# EAGLE library part DSPIC33EPXXXMC202/502 (library parts)
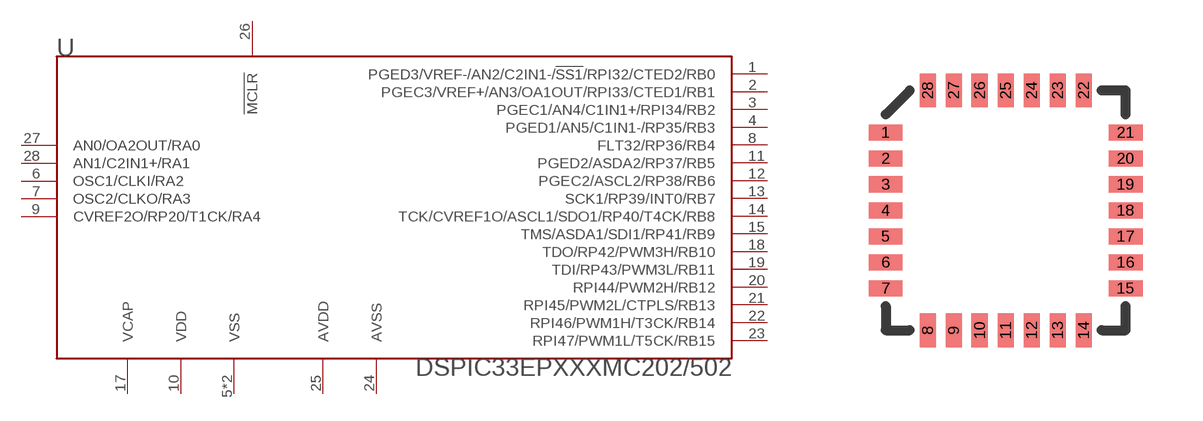
[diagram p1: symbol with the pads of QFN-S-28; footprint QFN-S-28]

Designator prefix U

## DSPIC33EPXXXMC202/502/PT  [QFN-S-28]
1  PGED3/VREF-/AN2/C2IN1-/!SS1!/RPI32/CTED2/RB0
2  PGEC3/VREF+/AN3/OA1OUT/RPI33/CTED1/RB1
3  PGEC1/AN4/C1IN1+/RPI34/RB2
4  PGED1/AN5/C1IN1-/RP35/RB3
5  VSS
6  OSC1/CLKI/RA2
7  OSC2/CLKO/RA3
8  FLT32/RP36/RB4
9  CVREF2O/RP20/T1CK/RA4
10  VDD
11  PGED2/ASDA2/RP37/RB5
12  PGEC2/ASCL2/RP38/RB6
13  SCK1/RP39/INT0/RB7
14  TCK/CVREF1O/ASCL1/SDO1/RP40/T4CK/RB8
15  TMS/ASDA1/SDI1/RP41/RB9
16  VSS
17  VCAP
18  TDO/RP42/PWM3H/RB10
19  TDI/RP43/PWM3L/RB11
20  RPI44/PWM2H/RB12
21  RPI45/PWM2L/CTPLS/RB13
22  RPI46/PWM1H/T3CK/RB14
23  RPI47/PWM1L/T5CK/RB15
24  AVSS
25  AVDD
26  !MCLR
27  AN0/OA2OUT/RA0
28  AN1/C2IN1+/RA1

## Footprint QFN-S-28 (pad centres in mm)
smd 0.85 x 0.4: 1 -3,1.95; 2 -3,1.3; 3 -3,0.65; 4 -3,0; 5 -3,-0.65; 6 -3,-1.3; 7 -3,-1.95; 15 3,-1.95; 16 3,-1.3; 17 3,-0.65; 18 3,0; 19 3,0.65; 20 3,1.3; 21 3,1.95
smd 0.4 x 0.85: 8 -1.95,-3; 9 -1.3,-3; 10 -0.65,-3; 11 0,-3; 12 0.65,-3; 13 1.3,-3; 14 1.95,-3; 22 1.95,3; 23 1.3,3; 24 0.65,3; 25 0,3; 26 -0.65,3; 27 -1.3,3; 28 -1.95,3